# Altium schematic symbol library xfmr_2.Schlib: 1 symbol
Pins are listed as number, name and electrical type; pins without a type are passive.

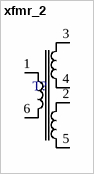
[diagram p0: symbol xfmr_2]

## xfmr_2
designator T?  (value not drawn)
Gate Drive Transformer TDK EP5 1:1:1
pins: 1, 2, 3, 4, 5, 6